# Altium footprint library Connector_JST.PcbLib: 558 footprints (part 34 of 35)
Each footprint in its own frame and in the unit in brackets; x right, y up, seen from the top. Pads: shape width x height; smd on the part's side, far side on the other; paste and mask are expansions set on the pad; w line width, h text height; cw(c..) or ccw(c..) is an arc to the next point about the centre after c.
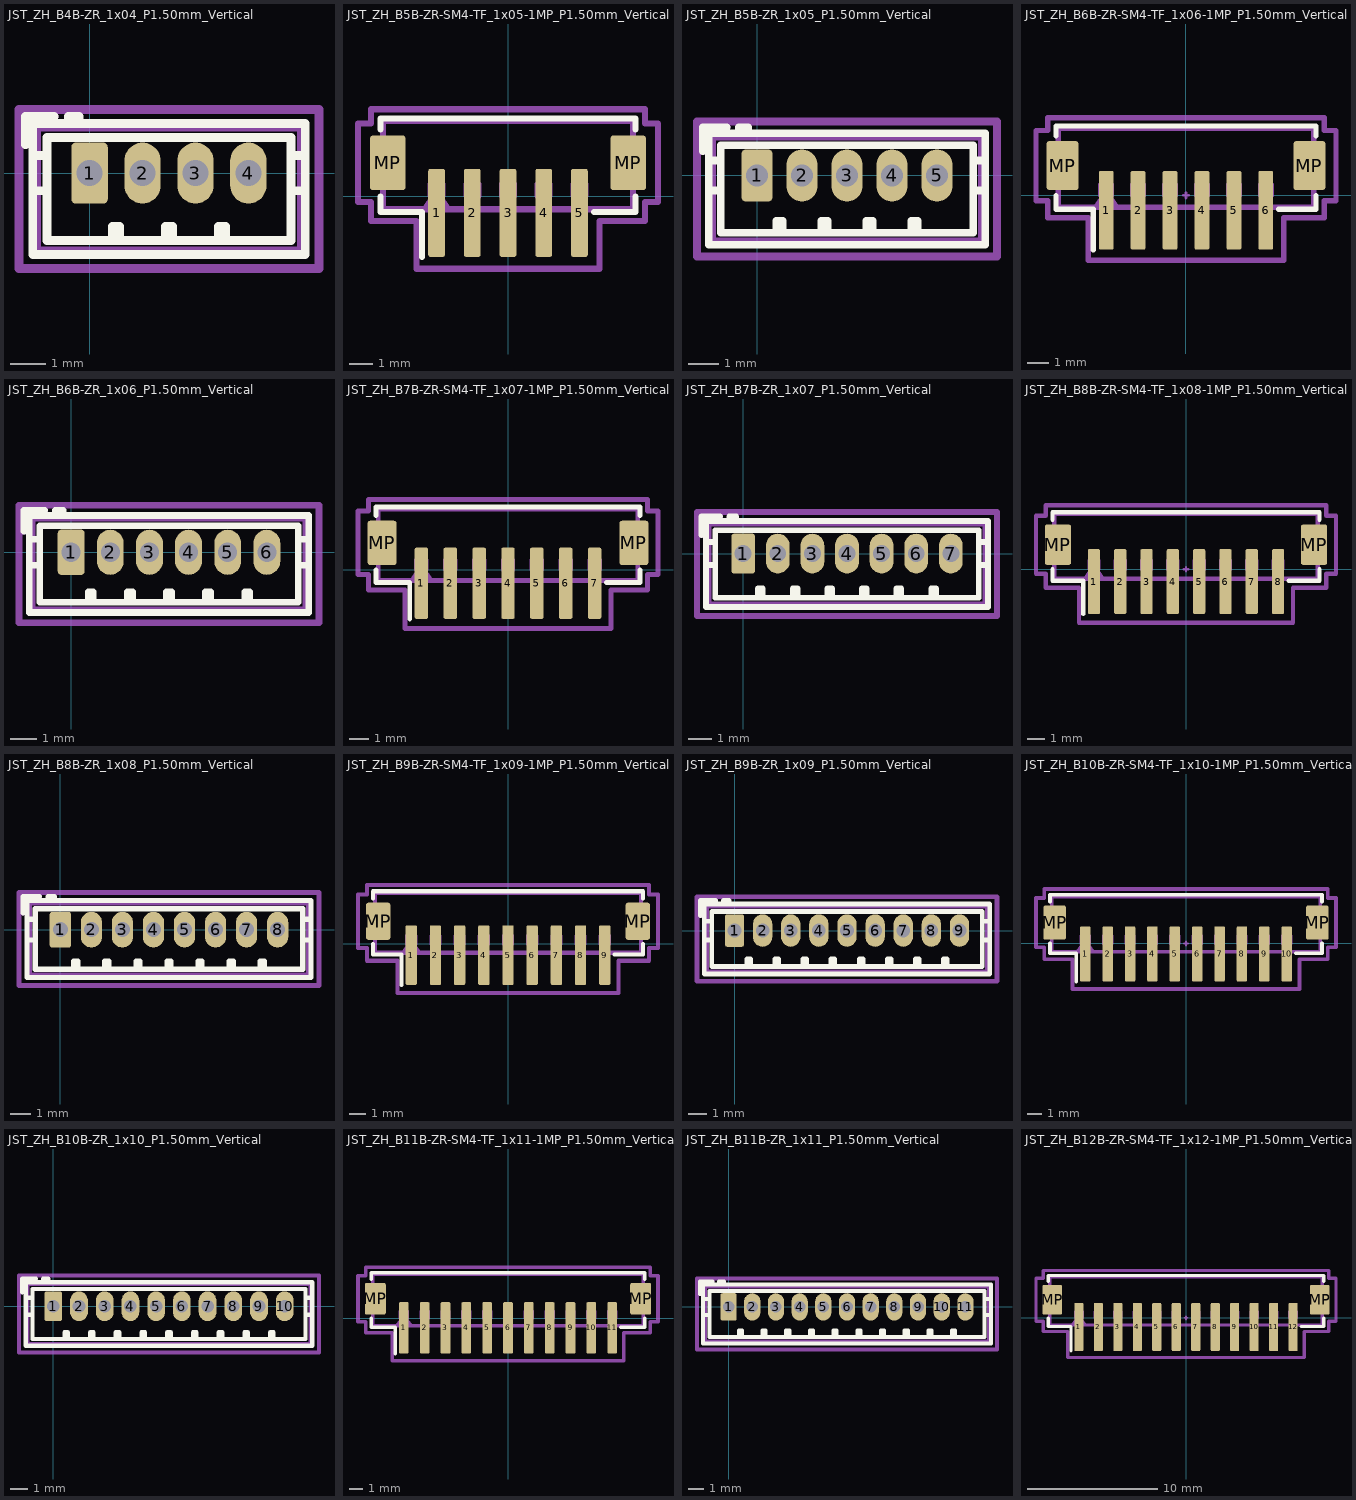
[diagram p33: the footprints below, top view; thin cyan lines are the x and y axes]

## JST_ZH_B4B-ZR_1x04_P1.50mm_Vertical [mm] "JST_ZH_B4B-ZR_1x04_P1.50mm_Vertical"
pads (4):
  rrect24% 1.03x1.73 hole 0.73: 1(0,0)
  rrect100% 1.03x1.73 hole 0.73: 2(1.5,0) 3(3,0) 4(4.5,0)
F.SilkS:
  lines w0.254: -1.81,0.81 -1.81,1.61 -1.01,1.61 ; -1.61,-0.5 -1.21,-0.5 ; -1.61,0.5 -1.21,0.5 ; -0.6,1.41 -0.6,1.61 -0.3,1.61 -0.3,1.41 ; -0.6,1.51 -0.3,1.51 ; 0.65,-1.91 0.65,-1.51 0.85,-1.51 0.85,-1.91 ; 0.75,-1.91 0.75,-1.51 ; 2.15,-1.91 2.15,-1.51 2.35,-1.51 2.35,-1.91 ; 2.25,-1.91 2.25,-1.51 ; 3.65,-1.91 3.65,-1.51 3.85,-1.51 3.85,-1.91 ; 3.75,-1.91 3.75,-1.51 ; 5.71,-0.5 6.11,-0.5 ; 5.71,0.5 6.11,0.5 ; -1.61,-2.31 6.11,-2.31 6.11,1.41 -1.61,1.41 -1.61,-2.31 ; -1.21,-1.91 5.71,-1.91 5.71,1.01 -1.21,1.01 -1.21,-1.91
Top Component Center:
  lines w0.127: -0.127,0 0.127,0 ; 0,-0.127 0,0.127
Top Assembly:
  lines w0.254: -1.81,0.81 -1.81,1.61 -1.01,1.61 ; -1.5,-2.2 6,-2.2 6,1.3 -1.5,1.3 -1.5,-2.2
Top Courtyard:
  lines w0.254: -2,-2.7 6.5,-2.7 6.5,1.8 -2,1.8 -2,-2.7
Top Designator:
  text ".Designator" at -1.525,-1.741 h1.52

## JST_ZH_B5B-ZR-SM4-TF_1x05-1MP_P1.50mm_Vertical [mm] "JST_ZH_B5B-ZR-SM4-TF_1x05-1MP_P1.50mm_Vertical"
pads (7):
  rrect25% 0.7x3.7 smd: 1(-3,-0.7) 2(-1.5,-0.7) 3(0,-0.7) 4(1.5,-0.7) 5(3,-0.7)
  rrect17% 1.5x2.3 smd: MP(-5.05,1.4) MP(5.05,1.4)
F.SilkS:
  lines w0.254: -5.36,-0.01 -5.36,-0.66 -3.61,-0.66 -3.61,-2.55 ; -5.36,2.81 -5.36,3.26 5.36,3.26 5.36,2.81 ; 3.61,-0.66 5.36,-0.66 5.36,-0.01
Top Component Center:
  lines w0.127: -0.127,0 0.127,0 ; 0,-0.127 0,0.127
Top Assembly:
  lines w0.254: -3.5,-0.55 -3,0.157 -2.5,-0.55 ; -5.25,-0.55 -5.25,3.15 5.25,3.15 5.25,-0.55 -5.25,-0.55 ; -3.25,0 -3.25,0.5 -2.75,0.5 -2.75,0 -3.25,0 ; -1.75,0 -1.75,0.5 -1.25,0.5 -1.25,0 -1.75,0 ; -0.25,0 -0.25,0.5 0.25,0.5 0.25,0 -0.25,0 ; 1.25,0 1.25,0.5 1.75,0.5 1.75,0 1.25,0 ; 2.75,0 2.75,0.5 3.25,0.5 3.25,0 2.75,0
Top Courtyard:
  lines w0.254: -6.3,-0.25 -6.3,3.05 -5.75,3.05 -5.75,3.65 5.75,3.65 5.75,3.05 6.3,3.05 6.3,-0.25 5.75,-0.25 5.75,-1.05 3.85,-1.05 3.85,-3.05 -3.85,-3.05 -3.85,-1.05 -5.75,-1.05 -5.75,-0.25 -6.3,-0.25
Top Designator:
  text ".Designator" at -3.43,1.688 h1.52

## JST_ZH_B5B-ZR_1x05_P1.50mm_Vertical [mm] "JST_ZH_B5B-ZR_1x05_P1.50mm_Vertical"
pads (5):
  rrect24% 1.03x1.73 hole 0.73: 1(0,0)
  rrect100% 1.03x1.73 hole 0.73: 2(1.5,0) 3(3,0) 4(4.5,0) 5(6,0)
F.SilkS:
  lines w0.254: -1.81,0.81 -1.81,1.61 -1.01,1.61 ; -1.61,-0.5 -1.21,-0.5 ; -1.61,0.5 -1.21,0.5 ; -0.6,1.41 -0.6,1.61 -0.3,1.61 -0.3,1.41 ; -0.6,1.51 -0.3,1.51 ; 0.65,-1.91 0.65,-1.51 0.85,-1.51 0.85,-1.91 ; 0.75,-1.91 0.75,-1.51 ; 2.15,-1.91 2.15,-1.51 2.35,-1.51 2.35,-1.91 ; 2.25,-1.91 2.25,-1.51 ; 3.65,-1.91 3.65,-1.51 3.85,-1.51 3.85,-1.91 ; 3.75,-1.91 3.75,-1.51 ; 5.15,-1.91 5.15,-1.51 5.35,-1.51 5.35,-1.91 ; 5.25,-1.91 5.25,-1.51 ; 7.21,-0.5 7.61,-0.5 ; 7.21,0.5 7.61,0.5 ; -1.61,-2.31 -1.61,1.41 7.61,1.41 7.61,-2.31 -1.61,-2.31 ; -1.21,-1.91 -1.21,1.01 7.21,1.01 7.21,-1.91 -1.21,-1.91
Top Component Center:
  lines w0.127: -0.127,0 0.127,0 ; 0,-0.127 0,0.127
Top Assembly:
  lines w0.254: -1.81,0.81 -1.81,1.61 -1.01,1.61 ; -1.5,-2.2 -1.5,1.3 7.5,1.3 7.5,-2.2 -1.5,-2.2
Top Courtyard:
  lines w0.254: -2,-2.7 -2,1.8 8,1.8 8,-2.7 -2,-2.7
Top Designator:
  text ".Designator" at -0.382,-1.741 h1.52

## JST_ZH_B6B-ZR-SM4-TF_1x06-1MP_P1.50mm_Vertical [mm] "JST_ZH_B6B-ZR-SM4-TF_1x06-1MP_P1.50mm_Vertical"
pads (8):
  rrect25% 0.7x3.7 smd: 1(-3.75,-0.7) 2(-2.25,-0.7) 3(-0.75,-0.7) 4(0.75,-0.7) 5(2.25,-0.7) 6(3.75,-0.7)
  rrect17% 1.5x2.3 smd: MP(-5.8,1.4) MP(5.8,1.4)
F.SilkS:
  lines w0.254: -6.11,-0.01 -6.11,-0.66 -4.36,-0.66 -4.36,-2.55 ; -6.11,2.81 -6.11,3.26 6.11,3.26 6.11,2.81 ; 4.36,-0.66 6.11,-0.66 6.11,-0.01
Top Component Center:
  lines w0.127: -0.127,0 0.127,0 ; 0,-0.127 0,0.127
Top Assembly:
  lines w0.254: -4.25,-0.55 -3.75,0.157 -3.25,-0.55 ; -6,-0.55 -6,3.15 6,3.15 6,-0.55 -6,-0.55 ; -4,0 -4,0.5 -3.5,0.5 -3.5,0 -4,0 ; -2.5,0 -2.5,0.5 -2,0.5 -2,0 -2.5,0 ; -1,0 -1,0.5 -0.5,0.5 -0.5,0 -1,0 ; 0.5,0 0.5,0.5 1,0.5 1,0 0.5,0 ; 2,0 2,0.5 2.5,0.5 2.5,0 2,0 ; 3.5,0 3.5,0.5 4,0.5 4,0 3.5,0
Top Courtyard:
  lines w0.254: -7.05,-0.25 -7.05,3.05 -6.5,3.05 -6.5,3.65 6.5,3.65 6.5,3.05 7.05,3.05 7.05,-0.25 6.5,-0.25 6.5,-1.05 4.6,-1.05 4.6,-3.05 -4.6,-3.05 -4.6,-1.05 -6.5,-1.05 -6.5,-0.25 -7.05,-0.25
Top Designator:
  text ".Designator" at -3.303,2.069 h1.52

## JST_ZH_B6B-ZR_1x06_P1.50mm_Vertical [mm] "JST_ZH_B6B-ZR_1x06_P1.50mm_Vertical"
pads (6):
  rrect24% 1.03x1.73 hole 0.73: 1(0,0)
  rrect100% 1.03x1.73 hole 0.73: 2(1.5,0) 3(3,0) 4(4.5,0) 5(6,0) 6(7.5,0)
F.SilkS:
  lines w0.254: -1.81,0.81 -1.81,1.61 -1.01,1.61 ; -1.61,-0.5 -1.21,-0.5 ; -1.61,0.5 -1.21,0.5 ; -0.6,1.41 -0.6,1.61 -0.3,1.61 -0.3,1.41 ; -0.6,1.51 -0.3,1.51 ; 0.65,-1.91 0.65,-1.51 0.85,-1.51 0.85,-1.91 ; 0.75,-1.91 0.75,-1.51 ; 2.15,-1.91 2.15,-1.51 2.35,-1.51 2.35,-1.91 ; 2.25,-1.91 2.25,-1.51 ; 3.65,-1.91 3.65,-1.51 3.85,-1.51 3.85,-1.91 ; 3.75,-1.91 3.75,-1.51 ; 5.15,-1.91 5.15,-1.51 5.35,-1.51 5.35,-1.91 ; 5.25,-1.91 5.25,-1.51 ; 6.65,-1.91 6.65,-1.51 6.85,-1.51 6.85,-1.91 ; 6.75,-1.91 6.75,-1.51 ; 8.71,-0.5 9.11,-0.5 ; 8.71,0.5 9.11,0.5 ; -1.61,-2.31 9.11,-2.31 9.11,1.41 -1.61,1.41 -1.61,-2.31 ; -1.21,-1.91 8.71,-1.91 8.71,1.01 -1.21,1.01 -1.21,-1.91
Top Component Center:
  lines w0.127: -0.127,0 0.127,0 ; 0,-0.127 0,0.127
Top Assembly:
  lines w0.254: -1.81,0.81 -1.81,1.61 -1.01,1.61 ; -1.5,-2.2 9,-2.2 9,1.3 -1.5,1.3 -1.5,-2.2
Top Courtyard:
  lines w0.254: -2,-2.7 9.5,-2.7 9.5,1.8 -2,1.8 -2,-2.7
Top Designator:
  text ".Designator" at 0.761,-1.614 h1.52

## JST_ZH_B7B-ZR-SM4-TF_1x07-1MP_P1.50mm_Vertical [mm] "JST_ZH_B7B-ZR-SM4-TF_1x07-1MP_P1.50mm_Vertical"
pads (9):
  rrect25% 0.7x3.7 smd: 1(-4.5,-0.7) 2(-3,-0.7) 3(-1.5,-0.7) 4(0,-0.7) 5(1.5,-0.7) 6(3,-0.7) 7(4.5,-0.7)
  rrect17% 1.5x2.3 smd: MP(-6.55,1.4) MP(6.55,1.4)
F.SilkS:
  lines w0.254: -6.86,-0.01 -6.86,-0.66 -5.11,-0.66 -5.11,-2.55 ; -6.86,2.81 -6.86,3.26 6.86,3.26 6.86,2.81 ; 5.11,-0.66 6.86,-0.66 6.86,-0.01
Top Component Center:
  lines w0.127: -0.127,0 0.127,0 ; 0,-0.127 0,0.127
Top Assembly:
  lines w0.254: -5,-0.55 -4.5,0.157 -4,-0.55 ; -6.75,-0.55 -6.75,3.15 6.75,3.15 6.75,-0.55 -6.75,-0.55 ; -4.75,0 -4.75,0.5 -4.25,0.5 -4.25,0 -4.75,0 ; -3.25,0 -3.25,0.5 -2.75,0.5 -2.75,0 -3.25,0 ; -1.75,0 -1.75,0.5 -1.25,0.5 -1.25,0 -1.75,0 ; -0.25,0 -0.25,0.5 0.25,0.5 0.25,0 -0.25,0 ; 1.25,0 1.25,0.5 1.75,0.5 1.75,0 1.25,0 ; 2.75,0 2.75,0.5 3.25,0.5 3.25,0 2.75,0 ; 4.25,0 4.25,0.5 4.75,0.5 4.75,0 4.25,0
Top Courtyard:
  lines w0.254: -7.8,-0.25 -7.8,3.05 -7.25,3.05 -7.25,3.65 7.25,3.65 7.25,3.05 7.8,3.05 7.8,-0.25 7.25,-0.25 7.25,-1.05 5.35,-1.05 5.35,-3.05 -5.35,-3.05 -5.35,-1.05 -7.25,-1.05 -7.25,-0.25 -7.8,-0.25
Top Designator:
  text ".Designator" at -3.684,1.688 h1.52

## JST_ZH_B7B-ZR_1x07_P1.50mm_Vertical [mm] "JST_ZH_B7B-ZR_1x07_P1.50mm_Vertical"
pads (7):
  rrect24% 1.03x1.73 hole 0.73: 1(0,0)
  rrect100% 1.03x1.73 hole 0.73: 2(1.5,0) 3(3,0) 4(4.5,0) 5(6,0) 6(7.5,0) 7(9,0)
F.SilkS:
  lines w0.254: -1.81,0.81 -1.81,1.61 -1.01,1.61 ; -1.61,-0.5 -1.21,-0.5 ; -1.61,0.5 -1.21,0.5 ; -0.6,1.41 -0.6,1.61 -0.3,1.61 -0.3,1.41 ; -0.6,1.51 -0.3,1.51 ; 0.65,-1.91 0.65,-1.51 0.85,-1.51 0.85,-1.91 ; 0.75,-1.91 0.75,-1.51 ; 2.15,-1.91 2.15,-1.51 2.35,-1.51 2.35,-1.91 ; 2.25,-1.91 2.25,-1.51 ; 3.65,-1.91 3.65,-1.51 3.85,-1.51 3.85,-1.91 ; 3.75,-1.91 3.75,-1.51 ; 5.15,-1.91 5.15,-1.51 5.35,-1.51 5.35,-1.91 ; 5.25,-1.91 5.25,-1.51 ; 6.65,-1.91 6.65,-1.51 6.85,-1.51 6.85,-1.91 ; 6.75,-1.91 6.75,-1.51 ; 8.15,-1.91 8.15,-1.51 8.35,-1.51 8.35,-1.91 ; 8.25,-1.91 8.25,-1.51 ; 10.21,-0.5 10.61,-0.5 ; 10.21,0.5 10.61,0.5 ; -1.61,-2.31 -1.61,1.41 10.61,1.41 10.61,-2.31 -1.61,-2.31 ; -1.21,-1.91 -1.21,1.01 10.21,1.01 10.21,-1.91 -1.21,-1.91
Top Component Center:
  lines w0.127: -0.127,0 0.127,0 ; 0,-0.127 0,0.127
Top Assembly:
  lines w0.254: -1.81,0.81 -1.81,1.61 -1.01,1.61 ; -1.5,-2.2 -1.5,1.3 10.5,1.3 10.5,-2.2 -1.5,-2.2
Top Courtyard:
  lines w0.254: -2,-2.7 -2,1.8 11,1.8 11,-2.7 -2,-2.7
Top Designator:
  text ".Designator" at 1.015,-1.741 h1.52

## JST_ZH_B8B-ZR-SM4-TF_1x08-1MP_P1.50mm_Vertical [mm] "JST_ZH_B8B-ZR-SM4-TF_1x08-1MP_P1.50mm_Vertical"
pads (10):
  rrect25% 0.7x3.7 smd: 1(-5.25,-0.7) 2(-3.75,-0.7) 3(-2.25,-0.7) 4(-0.75,-0.7) 5(0.75,-0.7) 6(2.25,-0.7) 7(3.75,-0.7) 8(5.25,-0.7)
  rrect17% 1.5x2.3 smd: MP(-7.3,1.4) MP(7.3,1.4)
F.SilkS:
  lines w0.254: -7.61,-0.01 -7.61,-0.66 -5.86,-0.66 -5.86,-2.55 ; -7.61,2.81 -7.61,3.26 7.61,3.26 7.61,2.81 ; 5.86,-0.66 7.61,-0.66 7.61,-0.01
Top Component Center:
  lines w0.127: -0.127,0 0.127,0 ; 0,-0.127 0,0.127
Top Assembly:
  lines w0.254: -5.75,-0.55 -5.25,0.157 -4.75,-0.55 ; -7.5,-0.55 7.5,-0.55 7.5,3.15 -7.5,3.15 -7.5,-0.55 ; -5.5,0 -5,0 -5,0.5 -5.5,0.5 -5.5,0 ; -4,0 -3.5,0 -3.5,0.5 -4,0.5 -4,0 ; -2.5,0 -2,0 -2,0.5 -2.5,0.5 -2.5,0 ; -1,0 -0.5,0 -0.5,0.5 -1,0.5 -1,0 ; 0.5,0 1,0 1,0.5 0.5,0.5 0.5,0 ; 2,0 2.5,0 2.5,0.5 2,0.5 2,0 ; 3.5,0 4,0 4,0.5 3.5,0.5 3.5,0 ; 5,0 5.5,0 5.5,0.5 5,0.5 5,0
Top Courtyard:
  lines w0.254: -8.55,-0.25 -8,-0.25 -8,-1.05 -6.1,-1.05 -6.1,-3.05 6.1,-3.05 6.1,-1.05 8,-1.05 8,-0.25 8.55,-0.25 8.55,3.05 8,3.05 8,3.65 -8,3.65 -8,3.05 -8.55,3.05 -8.55,-0.25
Top Designator:
  text ".Designator" at -3.43,1.688 h1.52

## JST_ZH_B8B-ZR_1x08_P1.50mm_Vertical [mm] "JST_ZH_B8B-ZR_1x08_P1.50mm_Vertical"
pads (8):
  rrect24% 1.03x1.73 hole 0.73: 1(0,0)
  rrect100% 1.03x1.73 hole 0.73: 2(1.5,0) 3(3,0) 4(4.5,0) 5(6,0) 6(7.5,0) 7(9,0) 8(10.5,0)
F.SilkS:
  lines w0.254: -1.81,0.81 -1.81,1.61 -1.01,1.61 ; -1.61,-0.5 -1.21,-0.5 ; -1.61,0.5 -1.21,0.5 ; -0.6,1.41 -0.6,1.61 -0.3,1.61 -0.3,1.41 ; -0.6,1.51 -0.3,1.51 ; 0.65,-1.91 0.65,-1.51 0.85,-1.51 0.85,-1.91 ; 0.75,-1.91 0.75,-1.51 ; 2.15,-1.91 2.15,-1.51 2.35,-1.51 2.35,-1.91 ; 2.25,-1.91 2.25,-1.51 ; 3.65,-1.91 3.65,-1.51 3.85,-1.51 3.85,-1.91 ; 3.75,-1.91 3.75,-1.51 ; 5.15,-1.91 5.15,-1.51 5.35,-1.51 5.35,-1.91 ; 5.25,-1.91 5.25,-1.51 ; 6.65,-1.91 6.65,-1.51 6.85,-1.51 6.85,-1.91 ; 6.75,-1.91 6.75,-1.51 ; 8.15,-1.91 8.15,-1.51 8.35,-1.51 8.35,-1.91 ; 8.25,-1.91 8.25,-1.51 ; 9.65,-1.91 9.65,-1.51 9.85,-1.51 9.85,-1.91 ; 9.75,-1.91 9.75,-1.51 ; 11.71,-0.5 12.11,-0.5 ; 11.71,0.5 12.11,0.5 ; -1.61,-2.31 -1.61,1.41 12.11,1.41 12.11,-2.31 -1.61,-2.31 ; -1.21,-1.91 -1.21,1.01 11.71,1.01 11.71,-1.91 -1.21,-1.91
Top Component Center:
  lines w0.127: -0.127,0 0.127,0 ; 0,-0.127 0,0.127
Top Assembly:
  lines w0.254: -1.81,0.81 -1.81,1.61 -1.01,1.61 ; -1.5,-2.2 -1.5,1.3 12,1.3 12,-2.2 -1.5,-2.2
Top Courtyard:
  lines w0.254: -2,-2.7 -2,1.8 12.5,1.8 12.5,-2.7 -2,-2.7
Top Designator:
  text ".Designator" at 2.412,-1.741 h1.52

## JST_ZH_B9B-ZR-SM4-TF_1x09-1MP_P1.50mm_Vertical [mm] "JST_ZH_B9B-ZR-SM4-TF_1x09-1MP_P1.50mm_Vertical"
pads (11):
  rrect25% 0.7x3.7 smd: 1(-6,-0.7) 2(-4.5,-0.7) 3(-3,-0.7) 4(-1.5,-0.7) 5(0,-0.7) 6(1.5,-0.7) 7(3,-0.7) 8(4.5,-0.7) 9(6,-0.7)
  rrect17% 1.5x2.3 smd: MP(-8.05,1.4) MP(8.05,1.4)
F.SilkS:
  lines w0.254: -8.36,-0.01 -8.36,-0.66 -6.61,-0.66 -6.61,-2.55 ; -8.36,2.81 -8.36,3.26 8.36,3.26 8.36,2.81 ; 6.61,-0.66 8.36,-0.66 8.36,-0.01
Top Component Center:
  lines w0.127: -0.127,0 0.127,0 ; 0,-0.127 0,0.127
Top Assembly:
  lines w0.254: -6.5,-0.55 -6,0.157 -5.5,-0.55 ; -8.25,-0.55 -8.25,3.15 8.25,3.15 8.25,-0.55 -8.25,-0.55 ; -6.25,0 -6.25,0.5 -5.75,0.5 -5.75,0 -6.25,0 ; -4.75,0 -4.75,0.5 -4.25,0.5 -4.25,0 -4.75,0 ; -3.25,0 -3.25,0.5 -2.75,0.5 -2.75,0 -3.25,0 ; -1.75,0 -1.75,0.5 -1.25,0.5 -1.25,0 -1.75,0 ; -0.25,0 -0.25,0.5 0.25,0.5 0.25,0 -0.25,0 ; 1.25,0 1.25,0.5 1.75,0.5 1.75,0 1.25,0 ; 2.75,0 2.75,0.5 3.25,0.5 3.25,0 2.75,0 ; 4.25,0 4.25,0.5 4.75,0.5 4.75,0 4.25,0 ; 5.75,0 5.75,0.5 6.25,0.5 6.25,0 5.75,0
Top Courtyard:
  lines w0.254: -9.3,-0.25 -9.3,3.05 -8.75,3.05 -8.75,3.65 8.75,3.65 8.75,3.05 9.3,3.05 9.3,-0.25 8.75,-0.25 8.75,-1.05 6.85,-1.05 6.85,-3.05 -6.85,-3.05 -6.85,-1.05 -8.75,-1.05 -8.75,-0.25 -9.3,-0.25
Top Designator:
  text ".Designator" at -3.557,1.942 h1.52

## JST_ZH_B9B-ZR_1x09_P1.50mm_Vertical [mm] "JST_ZH_B9B-ZR_1x09_P1.50mm_Vertical"
pads (9):
  rrect24% 1.03x1.73 hole 0.73: 1(0,0)
  rrect100% 1.03x1.73 hole 0.73: 2(1.5,0) 3(3,0) 4(4.5,0) 5(6,0) 6(7.5,0) 7(9,0) 8(10.5,0) 9(12,0)
F.SilkS:
  lines w0.254: -1.81,0.81 -1.81,1.61 -1.01,1.61 ; -1.61,-0.5 -1.21,-0.5 ; -1.61,0.5 -1.21,0.5 ; -0.6,1.41 -0.6,1.61 -0.3,1.61 -0.3,1.41 ; -0.6,1.51 -0.3,1.51 ; 0.65,-1.91 0.65,-1.51 0.85,-1.51 0.85,-1.91 ; 0.75,-1.91 0.75,-1.51 ; 2.15,-1.91 2.15,-1.51 2.35,-1.51 2.35,-1.91 ; 2.25,-1.91 2.25,-1.51 ; 3.65,-1.91 3.65,-1.51 3.85,-1.51 3.85,-1.91 ; 3.75,-1.91 3.75,-1.51 ; 5.15,-1.91 5.15,-1.51 5.35,-1.51 5.35,-1.91 ; 5.25,-1.91 5.25,-1.51 ; 6.65,-1.91 6.65,-1.51 6.85,-1.51 6.85,-1.91 ; 6.75,-1.91 6.75,-1.51 ; 8.15,-1.91 8.15,-1.51 8.35,-1.51 8.35,-1.91 ; 8.25,-1.91 8.25,-1.51 ; 9.65,-1.91 9.65,-1.51 9.85,-1.51 9.85,-1.91 ; 9.75,-1.91 9.75,-1.51 ; 11.15,-1.91 11.15,-1.51 11.35,-1.51 11.35,-1.91 ; 11.25,-1.91 11.25,-1.51 ; 13.21,-0.5 13.61,-0.5 ; 13.21,0.5 13.61,0.5 ; -1.61,-2.31 13.61,-2.31 13.61,1.41 -1.61,1.41 -1.61,-2.31 ; -1.21,-1.91 13.21,-1.91 13.21,1.01 -1.21,1.01 -1.21,-1.91
Top Component Center:
  lines w0.127: -0.127,0 0.127,0 ; 0,-0.127 0,0.127
Top Assembly:
  lines w0.254: -1.81,0.81 -1.81,1.61 -1.01,1.61 ; -1.5,-2.2 13.5,-2.2 13.5,1.3 -1.5,1.3 -1.5,-2.2
Top Courtyard:
  lines w0.254: -2,-2.7 14,-2.7 14,1.8 -2,1.8 -2,-2.7
Top Designator:
  text ".Designator" at 2.666,-1.741 h1.52

## JST_ZH_B10B-ZR-SM4-TF_1x10-1MP_P1.50mm_Vertical [mm] "JST_ZH_B10B-ZR-SM4-TF_1x10-1MP_P1.50mm_Vertical"
pads (12):
  rrect25% 0.7x3.7 smd: 1(-6.75,-0.7) 2(-5.25,-0.7) 3(-3.75,-0.7) 4(-2.25,-0.7) 5(-0.75,-0.7) 6(0.75,-0.7) 7(2.25,-0.7) 8(3.75,-0.7) 9(5.25,-0.7) 10(6.75,-0.7)
  rrect17% 1.5x2.3 smd: MP(-8.8,1.4) MP(8.8,1.4)
F.SilkS:
  lines w0.254: -9.11,-0.01 -9.11,-0.66 -7.36,-0.66 -7.36,-2.55 ; -9.11,2.81 -9.11,3.26 9.11,3.26 9.11,2.81 ; 7.36,-0.66 9.11,-0.66 9.11,-0.01
Top Component Center:
  lines w0.127: -0.127,0 0.127,0 ; 0,-0.127 0,0.127
Top Assembly:
  lines w0.254: -7.25,-0.55 -6.75,0.157 -6.25,-0.55 ; -9,-0.55 9,-0.55 9,3.15 -9,3.15 -9,-0.55 ; -7,0 -6.5,0 -6.5,0.5 -7,0.5 -7,0 ; -5.5,0 -5,0 -5,0.5 -5.5,0.5 -5.5,0 ; -4,0 -3.5,0 -3.5,0.5 -4,0.5 -4,0 ; -2.5,0 -2,0 -2,0.5 -2.5,0.5 -2.5,0 ; -1,0 -0.5,0 -0.5,0.5 -1,0.5 -1,0 ; 0.5,0 1,0 1,0.5 0.5,0.5 0.5,0 ; 2,0 2.5,0 2.5,0.5 2,0.5 2,0 ; 3.5,0 4,0 4,0.5 3.5,0.5 3.5,0 ; 5,0 5.5,0 5.5,0.5 5,0.5 5,0 ; 6.5,0 7,0 7,0.5 6.5,0.5 6.5,0
Top Courtyard:
  lines w0.254: -10.05,-0.25 -9.5,-0.25 -9.5,-1.05 -7.6,-1.05 -7.6,-3.05 7.6,-3.05 7.6,-1.05 9.5,-1.05 9.5,-0.25 10.05,-0.25 10.05,3.05 9.5,3.05 9.5,3.65 -9.5,3.65 -9.5,3.05 -10.05,3.05 -10.05,-0.25
Top Designator:
  text ".Designator" at -3.43,1.815 h1.52

## JST_ZH_B10B-ZR_1x10_P1.50mm_Vertical [mm] "JST_ZH_B10B-ZR_1x10_P1.50mm_Vertical"
pads (10):
  rrect24% 1.03x1.73 hole 0.73: 1(0,0)
  rrect100% 1.03x1.73 hole 0.73: 2(1.5,0) 3(3,0) 4(4.5,0) 5(6,0) 6(7.5,0) 7(9,0) 8(10.5,0) 9(12,0) 10(13.5,0)
F.SilkS:
  lines w0.254: -1.81,0.81 -1.81,1.61 -1.01,1.61 ; -1.61,-0.5 -1.21,-0.5 ; -1.61,0.5 -1.21,0.5 ; -0.6,1.41 -0.6,1.61 -0.3,1.61 -0.3,1.41 ; -0.6,1.51 -0.3,1.51 ; 0.65,-1.91 0.65,-1.51 0.85,-1.51 0.85,-1.91 ; 0.75,-1.91 0.75,-1.51 ; 2.15,-1.91 2.15,-1.51 2.35,-1.51 2.35,-1.91 ; 2.25,-1.91 2.25,-1.51 ; 3.65,-1.91 3.65,-1.51 3.85,-1.51 3.85,-1.91 ; 3.75,-1.91 3.75,-1.51 ; 5.15,-1.91 5.15,-1.51 5.35,-1.51 5.35,-1.91 ; 5.25,-1.91 5.25,-1.51 ; 6.65,-1.91 6.65,-1.51 6.85,-1.51 6.85,-1.91 ; 6.75,-1.91 6.75,-1.51 ; 8.15,-1.91 8.15,-1.51 8.35,-1.51 8.35,-1.91 ; 8.25,-1.91 8.25,-1.51 ; 9.65,-1.91 9.65,-1.51 9.85,-1.51 9.85,-1.91 ; 9.75,-1.91 9.75,-1.51 ; 11.15,-1.91 11.15,-1.51 11.35,-1.51 11.35,-1.91 ; 11.25,-1.91 11.25,-1.51 ; 12.65,-1.91 12.65,-1.51 12.85,-1.51 12.85,-1.91 ; 12.75,-1.91 12.75,-1.51 ; 14.71,-0.5 15.11,-0.5 ; 14.71,0.5 15.11,0.5 ; -1.61,-2.31 -1.61,1.41 15.11,1.41 15.11,-2.31 -1.61,-2.31 ; -1.21,-1.91 -1.21,1.01 14.71,1.01 14.71,-1.91 -1.21,-1.91
Top Component Center:
  lines w0.127: -0.127,0 0.127,0 ; 0,-0.127 0,0.127
Top Assembly:
  lines w0.254: -1.81,0.81 -1.81,1.61 -1.01,1.61 ; -1.5,-2.2 -1.5,1.3 15,1.3 15,-2.2 -1.5,-2.2
Top Courtyard:
  lines w0.254: -2,-2.7 -2,1.8 15.5,1.8 15.5,-2.7 -2,-2.7
Top Designator:
  text ".Designator" at 2.793,-1.741 h1.52

## JST_ZH_B11B-ZR-SM4-TF_1x11-1MP_P1.50mm_Vertical [mm] "JST_ZH_B11B-ZR-SM4-TF_1x11-1MP_P1.50mm_Vertical"
pads (13):
  rrect25% 0.7x3.7 smd: 1(-7.5,-0.7) 2(-6,-0.7) 3(-4.5,-0.7) 4(-3,-0.7) 5(-1.5,-0.7) 6(0,-0.7) 7(1.5,-0.7) 8(3,-0.7) 9(4.5,-0.7) 10(6,-0.7) 11(7.5,-0.7)
  rrect17% 1.5x2.3 smd: MP(-9.55,1.4) MP(9.55,1.4)
F.SilkS:
  lines w0.254: -9.86,-0.01 -9.86,-0.66 -8.11,-0.66 -8.11,-2.55 ; -9.86,2.81 -9.86,3.26 9.86,3.26 9.86,2.81 ; 8.11,-0.66 9.86,-0.66 9.86,-0.01
Top Component Center:
  lines w0.127: -0.127,0 0.127,0 ; 0,-0.127 0,0.127
Top Assembly:
  lines w0.254: -8,-0.55 -7.5,0.157 -7,-0.55 ; -9.75,-0.55 9.75,-0.55 9.75,3.15 -9.75,3.15 -9.75,-0.55 ; -7.75,0 -7.25,0 -7.25,0.5 -7.75,0.5 -7.75,0 ; -6.25,0 -5.75,0 -5.75,0.5 -6.25,0.5 -6.25,0 ; -4.75,0 -4.25,0 -4.25,0.5 -4.75,0.5 -4.75,0 ; -3.25,0 -2.75,0 -2.75,0.5 -3.25,0.5 -3.25,0 ; -1.75,0 -1.25,0 -1.25,0.5 -1.75,0.5 -1.75,0 ; -0.25,0 0.25,0 0.25,0.5 -0.25,0.5 -0.25,0 ; 1.25,0 1.75,0 1.75,0.5 1.25,0.5 1.25,0 ; 2.75,0 3.25,0 3.25,0.5 2.75,0.5 2.75,0 ; 4.25,0 4.75,0 4.75,0.5 4.25,0.5 4.25,0 ; 5.75,0 6.25,0 6.25,0.5 5.75,0.5 5.75,0 ; 7.25,0 7.75,0 7.75,0.5 7.25,0.5 7.25,0
Top Courtyard:
  lines w0.254: -10.8,-0.25 -10.25,-0.25 -10.25,-1.05 -8.35,-1.05 -8.35,-3.05 8.35,-3.05 8.35,-1.05 10.25,-1.05 10.25,-0.25 10.8,-0.25 10.8,3.05 10.25,3.05 10.25,3.65 -10.25,3.65 -10.25,3.05 -10.8,3.05 -10.8,-0.25
Top Designator:
  text ".Designator" at -3.43,1.942 h1.52

## JST_ZH_B11B-ZR_1x11_P1.50mm_Vertical [mm] "JST_ZH_B11B-ZR_1x11_P1.50mm_Vertical"
pads (11):
  rrect24% 1.03x1.73 hole 0.73: 1(0,0)
  rrect100% 1.03x1.73 hole 0.73: 2(1.5,0) 3(3,0) 4(4.5,0) 5(6,0) 6(7.5,0) 7(9,0) 8(10.5,0) 9(12,0) 10(13.5,0) 11(15,0)
F.SilkS:
  lines w0.254: -1.81,0.81 -1.81,1.61 -1.01,1.61 ; -1.61,-0.5 -1.21,-0.5 ; -1.61,0.5 -1.21,0.5 ; -0.6,1.41 -0.6,1.61 -0.3,1.61 -0.3,1.41 ; -0.6,1.51 -0.3,1.51 ; 0.65,-1.91 0.65,-1.51 0.85,-1.51 0.85,-1.91 ; 0.75,-1.91 0.75,-1.51 ; 2.15,-1.91 2.15,-1.51 2.35,-1.51 2.35,-1.91 ; 2.25,-1.91 2.25,-1.51 ; 3.65,-1.91 3.65,-1.51 3.85,-1.51 3.85,-1.91 ; 3.75,-1.91 3.75,-1.51 ; 5.15,-1.91 5.15,-1.51 5.35,-1.51 5.35,-1.91 ; 5.25,-1.91 5.25,-1.51 ; 6.65,-1.91 6.65,-1.51 6.85,-1.51 6.85,-1.91 ; 6.75,-1.91 6.75,-1.51 ; 8.15,-1.91 8.15,-1.51 8.35,-1.51 8.35,-1.91 ; 8.25,-1.91 8.25,-1.51 ; 9.65,-1.91 9.65,-1.51 9.85,-1.51 9.85,-1.91 ; 9.75,-1.91 9.75,-1.51 ; 11.15,-1.91 11.15,-1.51 11.35,-1.51 11.35,-1.91 ; 11.25,-1.91 11.25,-1.51 ; 12.65,-1.91 12.65,-1.51 12.85,-1.51 12.85,-1.91 ; 12.75,-1.91 12.75,-1.51 ; 14.15,-1.91 14.15,-1.51 14.35,-1.51 14.35,-1.91 ; 14.25,-1.91 14.25,-1.51 ; 16.21,-0.5 16.61,-0.5 ; 16.21,0.5 16.61,0.5 ; -1.61,-2.31 -1.61,1.41 16.61,1.41 16.61,-2.31 -1.61,-2.31 ; -1.21,-1.91 -1.21,1.01 16.21,1.01 16.21,-1.91 -1.21,-1.91
Top Component Center:
  lines w0.127: -0.127,0 0.127,0 ; 0,-0.127 0,0.127
Top Assembly:
  lines w0.254: -1.81,0.81 -1.81,1.61 -1.01,1.61 ; -1.5,-2.2 -1.5,1.3 16.5,1.3 16.5,-2.2 -1.5,-2.2
Top Courtyard:
  lines w0.254: -2,-2.7 -2,1.8 17,1.8 17,-2.7 -2,-2.7
Top Designator:
  text ".Designator" at 3.936,-1.741 h1.52

## JST_ZH_B12B-ZR-SM4-TF_1x12-1MP_P1.50mm_Vertical [mm] "JST_ZH_B12B-ZR-SM4-TF_1x12-1MP_P1.50mm_Vertical"
pads (14):
  rrect25% 0.7x3.7 smd: 1(-8.25,-0.7) 2(-6.75,-0.7) 3(-5.25,-0.7) 4(-3.75,-0.7) 5(-2.25,-0.7) 6(-0.75,-0.7) 7(0.75,-0.7) 8(2.25,-0.7) 9(3.75,-0.7) 10(5.25,-0.7) 11(6.75,-0.7) 12(8.25,-0.7)
  rrect17% 1.5x2.3 smd: MP(-10.3,1.4) MP(10.3,1.4)
F.SilkS:
  lines w0.254: -10.61,-0.01 -10.61,-0.66 -8.86,-0.66 -8.86,-2.55 ; -10.61,2.81 -10.61,3.26 10.61,3.26 10.61,2.81 ; 8.86,-0.66 10.61,-0.66 10.61,-0.01
Top Component Center:
  lines w0.127: -0.127,0 0.127,0 ; 0,-0.127 0,0.127
Top Assembly:
  lines w0.254: -8.75,-0.55 -8.25,0.157 -7.75,-0.55 ; -10.5,-0.55 -10.5,3.15 10.5,3.15 10.5,-0.55 -10.5,-0.55 ; -8.5,0 -8.5,0.5 -8,0.5 -8,0 -8.5,0 ; -7,0 -7,0.5 -6.5,0.5 -6.5,0 -7,0 ; -5.5,0 -5.5,0.5 -5,0.5 -5,0 -5.5,0 ; -4,0 -4,0.5 -3.5,0.5 -3.5,0 -4,0 ; -2.5,0 -2.5,0.5 -2,0.5 -2,0 -2.5,0 ; -1,0 -1,0.5 -0.5,0.5 -0.5,0 -1,0 ; 0.5,0 0.5,0.5 1,0.5 1,0 0.5,0 ; 2,0 2,0.5 2.5,0.5 2.5,0 2,0 ; 3.5,0 3.5,0.5 4,0.5 4,0 3.5,0 ; 5,0 5,0.5 5.5,0.5 5.5,0 5,0 ; 6.5,0 6.5,0.5 7,0.5 7,0 6.5,0 ; 8,0 8,0.5 8.5,0.5 8.5,0 8,0
Top Courtyard:
  lines w0.254: -11.55,-0.25 -11.55,3.05 -11,3.05 -11,3.65 11,3.65 11,3.05 11.55,3.05 11.55,-0.25 11,-0.25 11,-1.05 9.1,-1.05 9.1,-3.05 -9.1,-3.05 -9.1,-1.05 -11,-1.05 -11,-0.25 -11.55,-0.25
Top Designator:
  text ".Designator" at -3.43,1.815 h1.52